# EAGLE library part 691413720003 (library Wurth_Elektronik_Electromechanic_Terminal_Blocks_Connectors_rev15c)
WR-TBL Terminal block - serie 413 5.0mm - Spring clamp/Screw less - 45° entry - 03p Code:Con_TBL_Screwless_5.00_6914137200xxB_691413720003 <http://katalog.we-online.de/media/images/eican/Con_TBL_Screwless_5.00_6914137200xxB_pf2.jpg> Details see: http://katalog.we-online.de/en/em/691_413_720_0xxB/691_413_720_003B?m Created 2014-12-22, aslant tao 2014 (C) Würth Elektronik
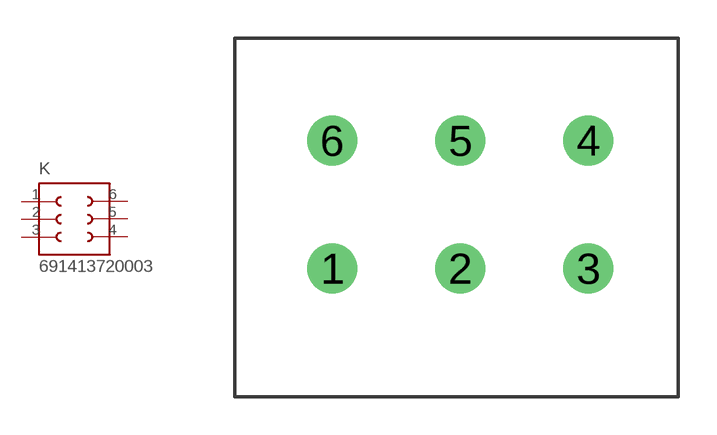
[diagram p2: symbol with the pads of 691413720003; footprint 691413720003]

Designator prefix K

## 691413720003  [691413720003]
1  1  pas
2  2  pas
3  3  pas
4  4  pas
5  5  pas
6  6  pas

## Footprint 691413720003 (pad centres in mm)
WR-TBL Serie 413 - 5.00mm Scewless 45° Entry - 3.0mm2 Wires, 3 Pin
drill 1.3: 1 -5,-2.5; 2 0,-2.5; 3 5,-2.5; 4 5,2.5; 5 0,2.5; 6 -5,2.5